# Altium schematic symbol library MCP1640CT_ICHY.SchLib: 2 symbols
Pins are listed as number, name and electrical type; pins without a type are passive.

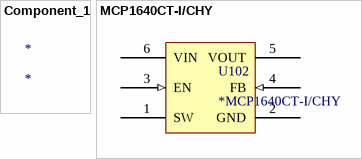
[diagram p0: symbols Component_1 to MCP1640CT-I/CHY]

## Component_1
designator *

## MCP1640CT-I/CHY
designator U102, comment *MCP1640CT-I/CHY
footprint SOT23-6
pins: 1 SW, 2 GND (power), 3 EN (in), 4 FB (in), 5 VOUT (power), 6 VIN (power)